# Altium footprint library JWB-001_Charger.PcbLib: 7 footprints
Each footprint in its own frame and in the unit in brackets; x right, y up, seen from the top. Pads: shape width x height; smd on the part's side, far side on the other; paste and mask are expansions set on the pad; w line width, h text height; cw(c..) or ccw(c..) is an arc to the next point about the centre after c.
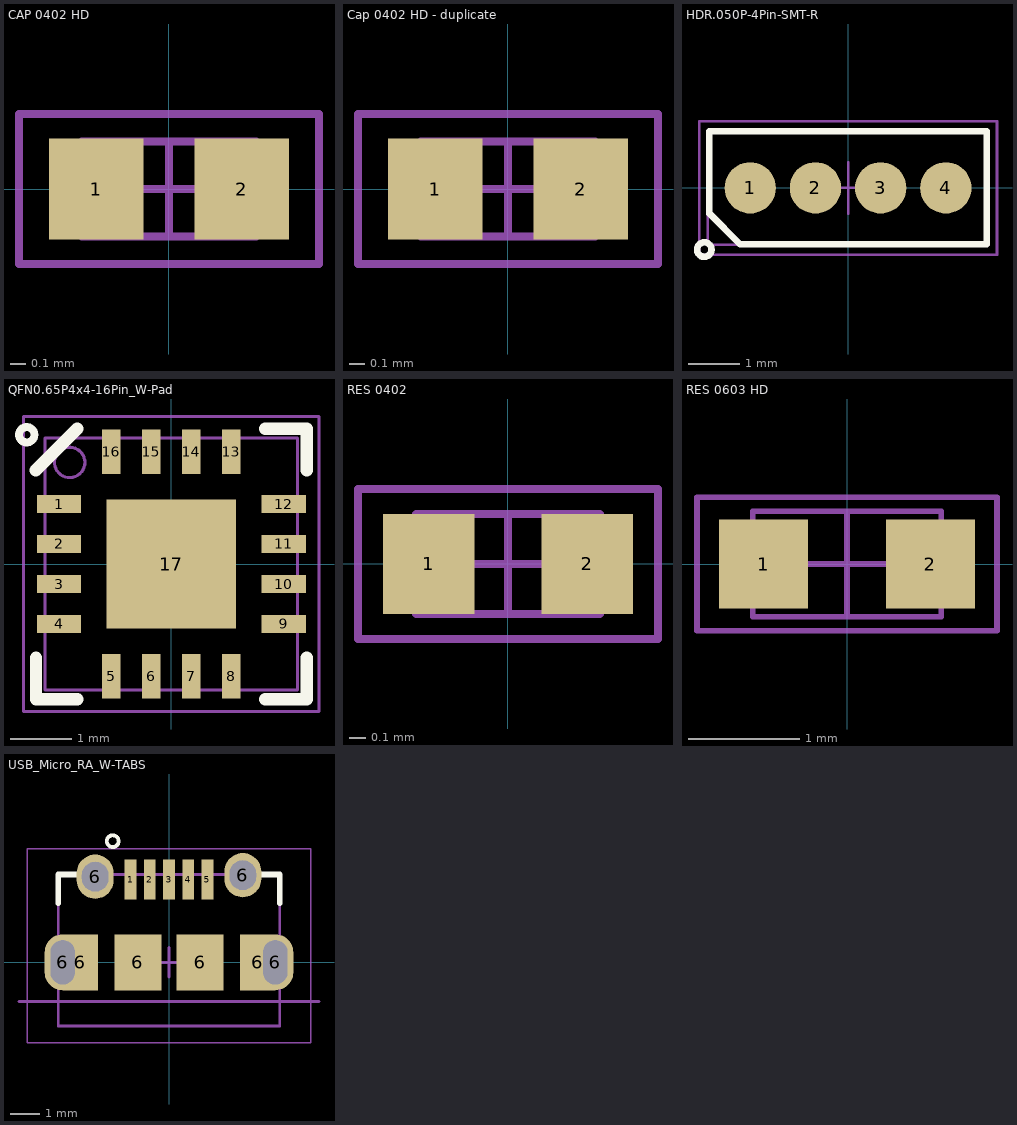
[diagram p0: the footprints below, top view; thin cyan lines are the x and y axes]

## CAP 0402 HD [mm] "Chip Capacitor, 2-Leads, Body 1.00x0.50mm, IPC Medium Density"
height 0.6
pads (2):
  rect 0.6x0.64 smd: 1(-0.46,0) 2(0.46,0)
Mechanical 11:
  text ".Designator" at -0.864,-0.254 h0.5
Mechanical 13:
  lines w0.05: -0.55,-0.3 -0.55,0.3 0.55,0.3 0.55,-0.3 -0.55,-0.3
Mechanical 15:
  lines w0.05: -0.3,0 0.3,0 ; 0,-0.3 0,0.3 ; -0.95,-0.475 0.95,-0.475 0.95,0.475 -0.95,0.475 -0.95,-0.475
3D body: height 0.6, standoff 0, extent 0.35,-0.3 0.55,0.3
3D body: height 0.6, standoff 0, extent -0.55,-0.3 -0.35,0.3
3D body: height 0.6, standoff 0, extent -0.35,-0.3 0.35,0.3

## Cap 0402 HD - duplicate [mm]
pads (2):
  rect 0.6x0.64 smd: 1(-0.46,0) 2(0.46,0)
Mechanical 11:
  text ".Designator" at 0.864,0.254 h0.5
Mechanical 13:
  lines w0.05: -0.55,-0.3 0.55,-0.3 0.55,0.3 -0.55,0.3 -0.55,-0.3
Mechanical 15:
  lines w0.05: -0.3,0 0.3,0 ; 0,-0.3 0,0.3 ; -0.95,-0.475 -0.95,0.475 0.95,0.475 0.95,-0.475 -0.95,-0.475
3D body: height 0.6, standoff 0, extent -0.35,-0.3 0.35,0.3
3D body: height 0.6, standoff 0, extent -0.55,-0.3 -0.35,0.3
3D body: height 0.6, standoff 0, extent 0.35,-0.3 0.55,0.3

## HDR.050P-4Pin-SMT-R [mm] "Header 0.050\" Pitch, 4Pin 1 row, SMT with 1mm Round pads"
height 6.4
pads (4):
  round 1 smd mask+0.08: 1(-1.905,0) 2(-0.635,0) 3(0.635,0) 4(1.905,0)
Top Overlay:
  circle w0.127: c-2.8,-1.2 r0.141
  lines w0.127: -2.7,-0.5 -2.7,1.1 2.7,1.1 2.7,-1.1 -2.1,-1.1 -2.7,-0.5
Mechanical 11:
  text ".Designator" at 1.6,0.449 h1
Mechanical 13:
  lines w0.05: -2.735,-1.11 2.735,-1.11 2.735,1.11 -2.735,1.11 -2.735,-1.11
Mechanical 15:
  lines w0.05: -0.5,0 0.5,0 ; 0,-0.5 0,0.5 ; -2.9,-1.3 2.9,-1.3 2.9,1.3 -2.9,1.3 -2.9,-1.3
3D body: height 6.4, standoff 0, extent -2.143,-0.239 -1.665,0.24
3D body: height 6.4, standoff 0, extent -0.873,-0.239 -0.395,0.24
3D body: height 6.4, standoff 0, extent 0.397,-0.239 0.875,0.24
3D body: height 6.4, standoff 0, extent 1.667,-0.239 2.145,0.24
3D body: height 4.98, standoff 0.58, extent -2.735,-1.11 2.735,1.11

## QFN0.65P4x4-16Pin_W-Pad [mm] "QFN, 16-Leads, Body 4x4mm, Pitch 0.65mm, Thermal Pad 2.1x2.1mm, IPC High Density"
height 0.8
pads (17):
  rect 0.72x0.3 smd: 1(-1.825,0.975) 2(-1.825,0.325) 3(-1.825,-0.325) 4(-1.825,-0.975) 9(1.825,-0.975) 10(1.825,-0.325) 11(1.825,0.325) 12(1.825,0.975)
  rect 0.3x0.72 smd: 5(-0.975,-1.825) 6(-0.325,-1.825) 7(0.325,-1.825) 8(0.975,-1.825) 13(0.975,1.825) 14(0.325,1.825) 15(-0.325,1.825) 16(-0.975,1.825)
  rect 2.1x2.1 smd paste-1.05: 17(0,0)
Top Overlay:
  circle w0.127: c-2.35,2.1 r0.125
  lines w0.2: -2.2,-1.525 -2.2,-2.2 -1.525,-2.2 ; 1.525,-2.2 2.2,-2.2 2.2,-1.525 ; 1.525,2.2 2.2,2.2 2.2,1.525
  lines w0.203: -2.2,1.525 -1.525,2.2
Top Paste:
  rectangle: -0.95,-0.95 0.95,0.95
Mechanical 11:
  text ".Designator" at 1.219,0.381 h0.8
Mechanical 13:
  circle w0.051: c-1.651,1.651 r0.247
  lines w0.051: -2.05,-2.05 -2.05,2.05 2.05,2.05 2.05,-2.05 -2.05,-2.05
Mechanical 15:
  lines w0.05: -0.5,0 0.5,0 ; 0,-0.5 0,0.5 ; -2.4,-2.4 -2.4,2.4 2.4,2.4 2.4,-2.4 -2.4,-2.4
3D body: height 0.8, standoff 0, extent -2.05,-2.05 2.05,2.05

## RES 0402 [mm] "Chip Resistor, 2-Leads, Body 1.05x0.54mm, IPC Medium Density"
height 0.4
pads (2):
  rect 0.55x0.6 smd: 1(-0.475,0) 2(0.475,0)
Mechanical 11:
  text ".Designator" at -0.864,-0.229 h0.5
Mechanical 13:
  lines w0.05: -0.55,-0.3 -0.55,0.3 0.55,0.3 0.55,-0.3 -0.55,-0.3
Mechanical 15:
  lines w0.05: -0.3,0 0.3,0 ; 0,-0.3 0,0.3 ; -0.9,-0.45 -0.9,0.45 0.9,0.45 0.9,-0.45 -0.9,-0.45
3D body: height 0.4, standoff 0, extent -0.35,-0.3 0.35,0.3
3D body: height 0.4, standoff 0, extent -0.55,-0.3 -0.35,0.3
3D body: height 0.4, standoff 0, extent 0.35,-0.3 0.55,0.3

## RES 0603 HD [mm] "Chip Resistor, 2-Leads, Body 1.60x0.82mm, IPC High Density"
height 0.6
pads (2):
  rect 0.8x0.8 smd: 1(-0.75,0) 2(0.75,0)
Mechanical 11:
  text ".Designator" at 1.118,0.356 h0.7
Mechanical 13:
  lines w0.05: -0.85,-0.475 -0.85,0.475 0.85,0.475 0.85,-0.475 -0.85,-0.475
Mechanical 15:
  lines w0.05: -0.475,0 0.475,0 ; 0,-0.475 0,0.475 ; -1.35,-0.6 -1.35,0.6 1.35,0.6 1.35,-0.6 -1.35,-0.6
3D body: height 0.55, standoff 0, extent -0.57,-0.475 0.57,0.475
3D body: height 0.55, standoff 0, extent -0.85,-0.475 -0.57,0.475
3D body: height 0.55, standoff 0, extent 0.57,-0.475 0.85,0.475

## USB_Micro_RA_W-TABS [mm] "USB Micro-AB Connector, 5-Leads, Pitch 0.65mm, 8mm x 5mm"
height 2.8
pads (13):
  rect 0.4x1.35 smd: 1(-1.3,2.8) 2(-0.65,2.8) 3(0,2.8) 4(0.65,2.8) 5(1.3,2.8)
  oval 1.225x1.9 hole 0.825 slot 1.5 at 90 deg: 6(-3.6,0) 6(3.6,0.001)
  rect 1.2x1.9 smd: 6(-3,0) 6(3,0)
  oval 1.25x1.5 hole 0.9 slot 1 at 90 deg: 6(-2.5,2.9) 6(2.5,2.95)
  rect 1.6x1.9 smd: 6(-1.05,0) 6(1.05,0)
Top Overlay:
  circle w0.127: c-1.905,4.103 r0.2
  lines w0.2: -3.75,2 -3.75,2.975 -3.149,2.976 ; 3.149,2.975 3.75,2.975 3.75,2
Mechanical 11:
  text ".Designator" at 2.286,0.737 h1.5
Mechanical 13:
  lines w0.1: -3.75,-2.15 3.75,-2.15 3.75,2.976 -3.75,2.976 -3.75,-2.15
Mechanical 15:
  lines w0.05: -4.8,3.851 4.8,3.851 4.8,-2.723 -4.8,-2.723 -4.8,3.851
  lines w0.1: -5.08,-1.325 5.08,-1.325 ; -0.5,0 0.5,0 ; 0,-0.5 0,0.5
3D body: height 2.5, standoff 2.25, extent -0.967,2.825 0.972,3.425
3D body: height 2.25, standoff -0.85, extent -2.379,2.826 2.387,3.426
3D body: height 0.25, standoff 0, extent -0.8,2.104 -0.493,3.247
3D body: height 0.25, standoff 0, extent -1.45,2.104 -1.143,3.248
3D body: height 0.25, standoff 0, extent 1.15,2.104 1.457,3.247
3D body: height 0.25, standoff 0, extent 0.5,2.104 0.807,3.247
3D body: height 0.25, standoff 0, extent -0.15,2.104 0.157,3.247
3D body: height 2.51, standoff -0.01, extent -3.756,-2.024 3.757,1.776
3D body: height 0.55, standoff -0.6, extent -3.8,-0.425 -3.03,0.425
3D body: height 0.55, standoff -0.6, extent 3.03,-0.425 3.8,0.425
3D body: height 2.5, standoff -0.01, extent -3.754,1.776 3.757,2.976
3D body: height 0.25, standoff 0, extent -3.25,1.775 3.25,2.105
3D body: height 1.79, standoff 0.71, extent -4,-2.625 -3.5,-2.023
3D body: height 1.79, standoff 0.71, extent 3.5,-2.625 4,-2.023
3D body: height 0.25, standoff -0.32, extent -3.05,-2.623 3.05,-2.023
3D body: height 2.83, standoff 2.25, extent -3.05,-2.623 3.05,-2.023